# Altium footprint library TO-247_Bent_Forward.PcbLib: 1 footprints
Each footprint in its own frame and in the unit in brackets; x right, y up, seen from the top. Pads: shape width x height; smd on the part's side, far side on the other; paste and mask are expansions set on the pad; w line width, h text height; cw(c..) or ccw(c..) is an arc to the next point about the centre after c.
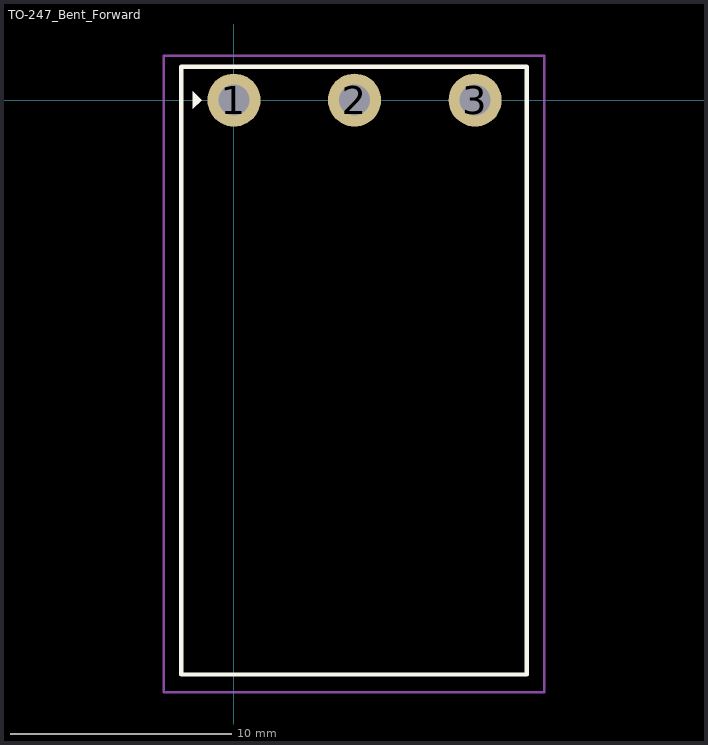
[diagram p0: the footprint, top view; thin cyan lines are the x and y axes]

## TO-247_Bent_Forward [mm]
pads (3):
  round 2.4 hole 1.4: 1(0,0) 2(5.45,0) 3(10.9,0)
Top Overlay:
  region: -1.85,-0.4 -1.85,0.4 -1.45,0
  lines w0.2: -2.375,-25.95 -2.375,1.5 13.225,1.5 13.225,-25.95 -2.375,-25.95
Top Courtyard:
  lines w0.1: -3.175,-26.75 -2.375,-26.75 14.025,-26.75 14.025,2 -3.175,2 -3.175,-26.75
3D body "SPW47N60C.STEP": height 5.05, standoff -2.95, extent -2.375,-25.95 13.225,0.25